# Altium integrated library ICM-20649.IntLib: 2 symbols
Pins are listed as number, name and electrical type; pins without a type are passive.

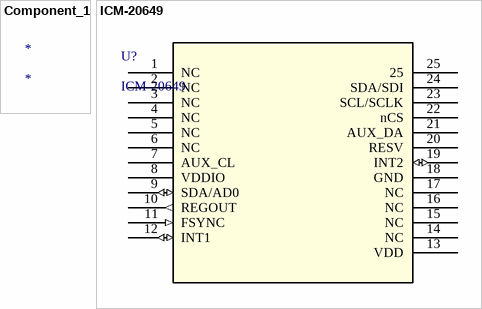
[diagram p0: symbols Component_1 to ICM-20649]

## Component_1
designator *

## ICM-20649
designator U?
No Description Available; Mfr_Name: InvenSense; Copyright: Copyright (C) 2023 Ultra Librarian. All rights reserved.; Manufacturer_Part_Number: ICM-20649; RefDes: RefDes; Type: DEV
footprint QFN24_3X3X0P9_IVS
footprint QFN24_3X3X0P9_IVS
pins: 1 NC, 2 NC, 3 NC, 4 NC, 5 NC, 6 NC, 7 AUX_CL, 8 VDDIO (power), 9 SDA/AD0 (io), 10 REGOUT (out), 11 FSYNC (in), 12 INT1 (io), 13 VDD (power), 14 NC, 15 NC, 16 NC, 17 NC, 18 GND, 19 INT2 (io), 20 RESV, 21 AUX_DA, 22 nCS, 23 SCL/SCLK, 24 SDA/SDI, 25